# EAGLE library part TOF-2481BE-N (library Disp)
*Taiwan Oasis TOF-2481BE-N 7-Seg LED 4 digit display
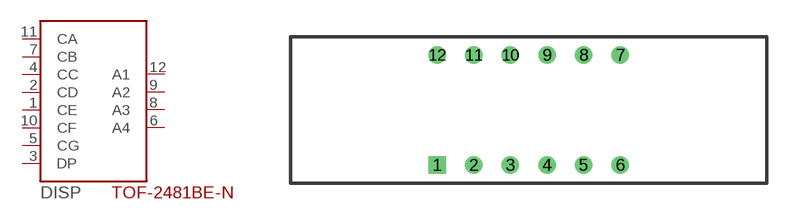
[diagram p11: symbol with the pads of TOF-2481BE-N; footprint TOF-2481BE-N]

Designator prefix DISP

## TOF-2481BE-N  [TOF-2481BE-N]
1  CE
2  CD
3  DP
4  CC
5  CG
6  A4
7  CB
8  A3
9  A2
10  CF
11  CA
12  A1

## Footprint TOF-2481BE-N (pad centres in mm)
Oasis 7 Seg LED
drill 0.711 square: 1 -6.35,-3.81
drill 0.711 round: 2 -3.81,-3.81; 3 -1.27,-3.81; 4 1.27,-3.81; 5 3.81,-3.81; 6 6.35,-3.81; 7 6.35,3.81; 8 3.81,3.81; 9 1.27,3.81; 10 -1.27,3.81; 11 -3.81,3.81; 12 -6.35,3.81